# Altium schematic symbol library PSU_Components.SchLib: 19 symbols
Pins are listed as number, name and electrical type; pins without a type are passive.

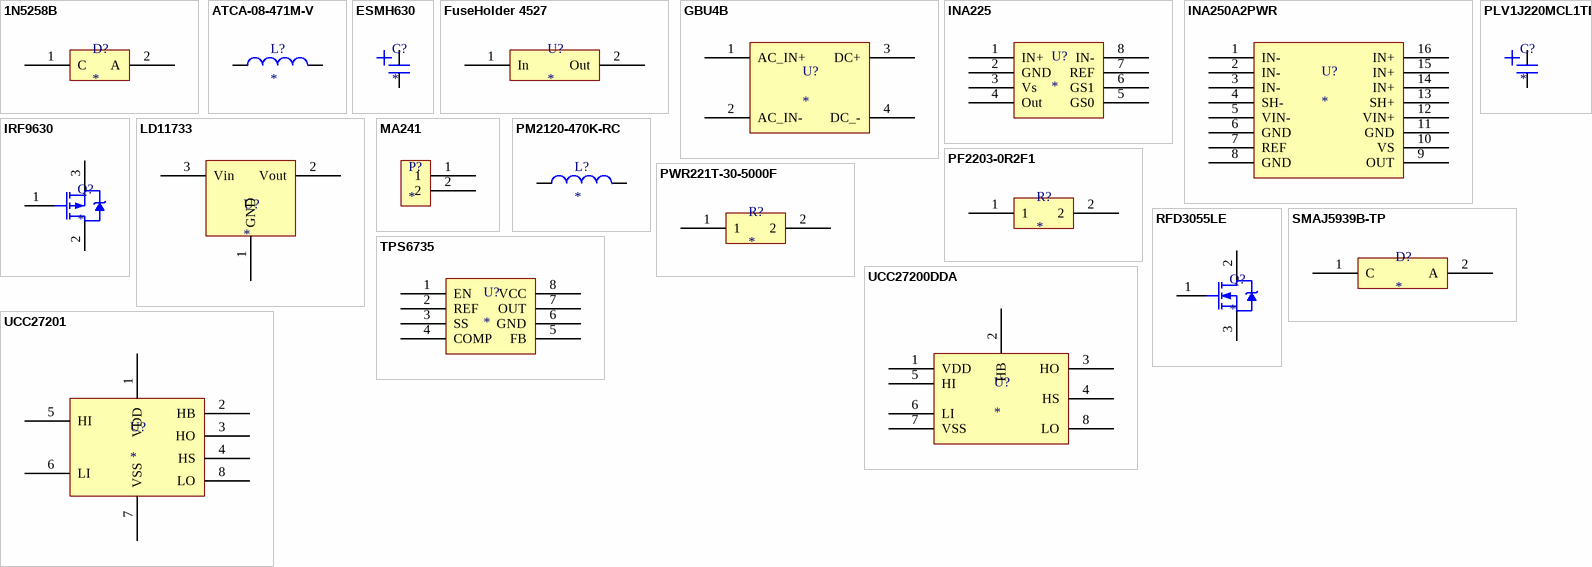
[diagram p0: symbols 1N5258B to UCC27201]

## 1N5258B
designator D?
Zener 36V 0.5W 5%
pins: 1 C, 2 A

## ATCA-08-471M-V
designator L?
FIXED IND 470UH 7A 64 MOHM TH; ComponentLink1Description: Datasheet; ComponentLink1URL: https://www.digikey.com/product-detail/en/abracon-llc/ATCA-08-471M-V/535-13514-ND/6137815
footprint ATCA-08-471M-V (FIXED IND 470UH 7A 64 MOHM TH)
pins: 1, 2

## ESMH630
designator C?
Aluminum Electrolytic Capacitors - Snap In 10KUF 63V
footprint SnapMount Caps VSN 22-35 (https://www.mouser.com/datasheet/2/420/48990562506224c250b19-606065.pdf)
pins: 1, 2

## FuseHolder 4527
designator U?
footprint FuseHolder 4527
pins: 1 In, 2 Out

## GBU4B
designator U?
Bridge Rectifier, 70V , 3A
footprint GBU4lL
pins: 1 AC_IN+, 2 AC_IN-, 3 DC+, 4 DC_-

## INA225
designator U?
Current Sense
footprint TSOP65P490X110-8N (TSOP, 8-Leads, Body 3.00x3.00mm, Pitch 0.65mm, IPC Medium Density)
pins: 1 IN+, 2 GND, 3 Vs, 4 Out, 5 GS0, 6 GS1, 7 REF, 8 IN-

## INA250A2PWR
designator U?
Current Sense Amplifier 1 Circuit  16-TSSOP
footprint INA250A2PWR (TSSOP16)
pins: 1 IN-, 2 IN-, 3 IN-, 4 SH-, 5 VIN-, 6 GND, 7 REF, 8 GND, 9 OUT, 10 VS, 11 GND, 12 VIN+, 13 SH+, 14 IN+, 15 IN+, 16 IN+

## IRF9630
designator Q?
MOSFET P-CH 200V 6.5A TO-220AB; ComponentLink1Description: Datasheet; ComponentLink1URL: https://media.digikey.com/pdf/Data%20Sheets/Vishay%20Siliconix%20PDFs/IRF9630,SiHF9630.pdf
footprint TO-220AB (Footprint not found)
pins: 1 G, 2 D, 3 S

## LD11733
designator U?
3.3v Linear Regulator TO 220
pins: 1 GND, 2 Vout, 3 Vin

## MA241
designator P?
2 Pin screw terminal connector
footprint MA241 (2 pin connector)
pins: 1, 2

## PF2203-0R2F1
designator R?
RES 0.2 OHM 35W 1% TO220; ComponentLink1Description: Datasheet; ComponentLink1URL: https://riedon.com/media/pdf/PF2200.pdf
footprint TO-220_A (Footprint not found)
pins: 1, 2

## PLV1J220MCL1TD
designator C?
CAP ALUM POLY 22UF 20% 63V T/H; ComponentLink1Description: Datasheet; ComponentLink1URL: https://www.digikey.com/product-detail/en/nichicon/PLV1J220MCL1TD/493-3872-1-ND/2294181
footprint PLV1J220MCL1TD (CAP ALUM POLY 22UF 20% 63V T/H)
pins: 1, 2

## PM2120-470K-RC
designator L?
FIXED IND 47UH 8.2A 19 MOHM SMD; ComponentLink1Description: Datasheet; ComponentLink1URL: https://www.digikey.com/product-detail/en/PM2120-470K-RC/M8789-ND/775328/?itemSeq=307266532; Supplier 1: Digi-Key; Supplier Part Number 1: M8789-ND
footprint PM2120-470K-RC (FIXED IND 47UH 8.2A 19 MOHM SMD)
pins: 1, 2

## PWR221T-30-5000F
designator R?
RES 500 OHM 30W 1% TO220; ComponentLink1Description: Datasheet; ComponentLink1URL: https://www.bourns.com/docs/Product-Datasheets/PWR221T-30.pdf
footprint TO-220_A (Footprint not found)
pins: 1, 2

## RFD3055LE
designator Q?
N-Channel Logic Level Power MOSFET / 60V, 11A, 107 mΩ; ComponentLink1Description: Datasheet; ComponentLink1URL: https://www.mouser.com/datasheet/2/149/rfd3055lesm-307376.pdf
footprint RFD3055LE (TO-251AA Power NMOS)
pins: 1 G, 2 D, 3 S

## SMAJ5939B-TP
designator D?
Zener Diode 39V 1.5W ±5% Surface Mount DO-214AC (SMA)
footprint VISH-DO-214AC-2_L - Cloned (DO-214AC, 2-Leads, Body 4.5x2.79mm, IPC High Density)
pins: 1 C, 2 A

## TPS6735
designator U?
fixed negative 5-V output inverting dc/dc converter capable of delivering 200 mA
footprint SOIC-8N (SOIC, 8-Leads, Body 4.91x3.90mm, Pitch 1.27mm, IPC Medium Density)
pins: 1 EN, 2 REF, 3 SS, 4 COMP, 5 FB, 6 GND, 7 OUT, 8 VCC

## UCC27200DDA
designator U?
IC GATE DRVR HALF-BRIDGE 8SOPWR; ComponentLink1Description: Datasheet; ComponentLink1URL: http://www.ti.com/lit/ds/symlink/ucc27201.pdf
footprint UCC27200DDA (IC GATE DRVR HALF-BRIDGE 8SOPWR)
pins: 1 VDD, 2 HB, 3 HO, 4 HS, 5 HI, 6 LI, 7 VSS, 8 LO

## UCC27201
designator U?
20-V Boot, 3-A Peak, High Frequency, High-Side and Low-Side Driver /; ComponentLink1Description: DataSheet; ComponentLink1URL: http://www.ti.com/lit/ds/symlink/ucc27201.pdf
footprint SOIC-8N (SOIC, 8-Leads, Body 4.91x3.90mm, Pitch 1.27mm, IPC Medium Density)
pins: 1 VDD, 2 HB, 3 HO, 4 HS, 5 HI, 6 LI, 7 VSS, 8 LO